# Altium footprint library CDRH127.PcbLib: 1 footprints
Each footprint in its own frame and in the unit in brackets; x right, y up, seen from the top. Pads: shape width x height; smd on the part's side, far side on the other; paste and mask are expansions set on the pad; w line width, h text height; cw(c..) or ccw(c..) is an arc to the next point about the centre after c.
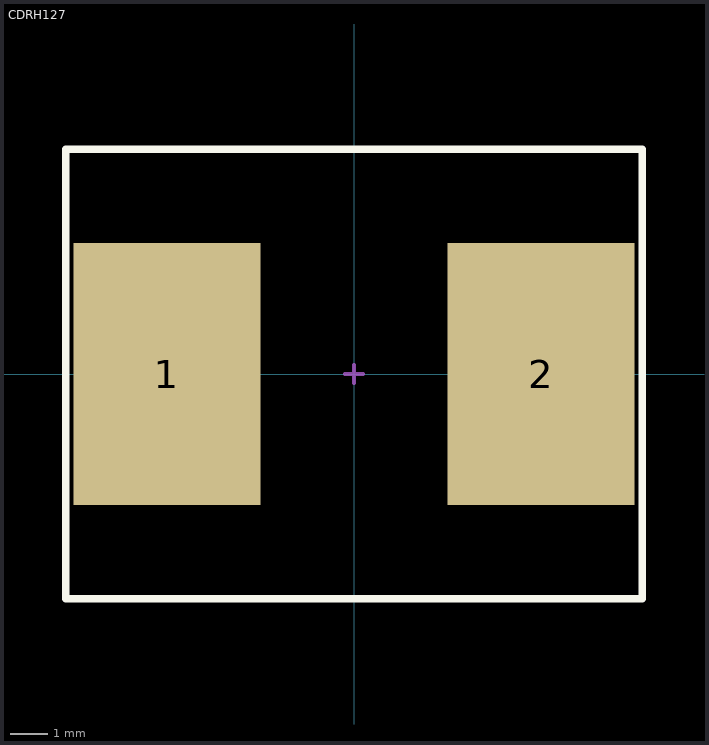
[diagram p0: the footprint, top view; thin cyan lines are the x and y axes]

## CDRH127 [mm]
height 0.95
pads (2):
  rect 5x7 smd: 1(-5,0) 2(5,0)
Top Overlay:
  lines w0.2: -7.7,-6 7.7,-6 7.7,6 -7.7,6 -7.7,-6
Top Assembly:
  lines w0.1: -0.25,0 0.25,0 ; 0,-0.25 0,0.25 ; -7.7,-6 -7.7,6 7.7,6 7.7,-6 -7.7,-6
  text "'.Designator'" at 0,0 h0.8
3D body "SUMIDA-CDRH127_LD.X_T": height 7, standoff -0.45, extent -6.171,-6 6.171,6